# Altium schematic symbol library IISP_Header.SchLib: 1 symbol
Pins are listed as number, name and electrical type; pins without a type are passive.

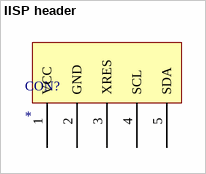
[diagram p0: symbol IISP header]

## IISP header
designator CON?
footprint Programm header
pins: 1 VCC, 2 GND, 3 XRES, 4 SCL, 5 SDA